# Altium schematic symbol library CR0402-FX-2943GLF.SchLib: 1 symbol
Pins are listed as number, name and electrical type; pins without a type are passive.

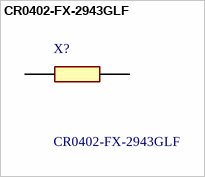
[diagram p0: symbol CR0402-FX-2943GLF]

## CR0402-FX-2943GLF
designator X?
Thick Film Resistors - SMD CHIP RESISTOR; Manufacturer_Name: Bourns; Geometry.Height: 0.4mm; Mouser Part Number: 652-CR0402FX2943GLF; Mouser Price/Stock: https://www.mouser.com/Search/Refine.aspx?Keyword=652-CR0402FX2943GLF; Manufacturer_Part_Number: CR0402-FX-2943GLF; Datasheet Link: https://componentsearchengine.com/Datasheets/1/CR0402-FX-2943GLF.pdf
footprint RESC1005X40N
pins: 1, 2